# Altium footprint library RASPBERRYPI_4B.PcbLib: 1 footprints
Each footprint in its own frame and in the unit in brackets; x right, y up, seen from the top. Pads: shape width x height; smd on the part's side, far side on the other; paste and mask are expansions set on the pad; w line width, h text height; cw(c..) or ccw(c..) is an arc to the next point about the centre after c.
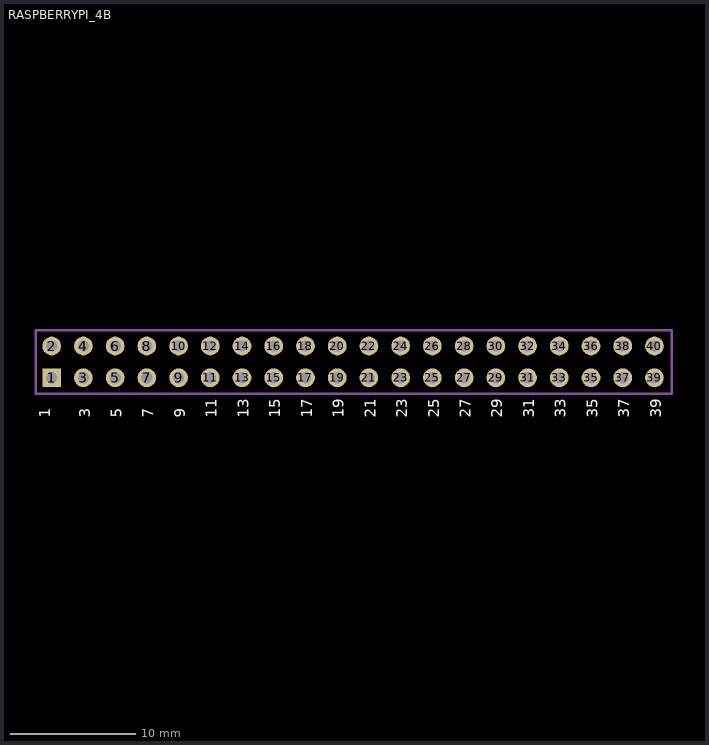
[diagram p0: the footprint, top view; thin cyan lines are the x and y axes]

## RASPBERRYPI_4B [mm]
pads (40):
  rect 1.5x1.5 hole 0.9: 1(4.87,47.73)
  round 1.5 hole 0.9: 2(4.87,50.27) 3(7.41,47.73) 4(7.41,50.27) 5(9.95,47.73) 6(9.95,50.27) 7(12.49,47.73) 8(12.49,50.27) 9(15.03,47.73) 10(15.03,50.27) 11(17.57,47.73) 12(17.57,50.27) 13(20.11,47.73) 14(20.11,50.27) 15(22.65,47.73) 16(22.65,50.27) 17(25.19,47.73) 18(25.19,50.27) 19(27.73,47.73) 20(27.73,50.27) 21(30.27,47.73) 22(30.27,50.27) 23(32.81,47.73) 24(32.81,50.27) 25(35.35,47.73) 26(35.35,50.27) 27(37.89,47.73) 28(37.89,50.27) 29(40.43,47.73) 30(40.43,50.27) 31(42.97,47.73) 32(42.97,50.27) 33(45.51,47.73) 34(45.51,50.27) 35(48.05,47.73) 36(48.05,50.27) 37(50.59,47.73) 38(50.59,50.27) 39(53.13,47.73) 40(53.13,50.27)
Top Overlay:
  text "1" at 4.765,44.52 h0.89
  text "3" at 7.94,44.52 h0.89
  text "5" at 10.48,44.52 h0.89
  text "7" at 13.02,44.52 h0.89
  text "9" at 15.56,44.52 h0.89
  text "11" at 18.1,44.52 h0.89
  text "13" at 20.64,44.52 h0.89
  text "15" at 23.18,44.52 h0.89
  text "17" at 25.72,44.52 h0.89
  text "19" at 28.26,44.52 h0.89
  text "21" at 30.8,44.52 h0.89
  text "23" at 33.34,44.52 h0.89
  text "25" at 35.88,44.52 h0.89
  text "27" at 38.42,44.52 h0.89
  text "29" at 40.96,44.52 h0.89
  text "31" at 43.5,44.52 h0.89
  text "33" at 46.04,44.52 h0.89
  text "35" at 48.58,44.52 h0.89
  text "37" at 51.12,44.52 h0.89
  text "39" at 53.66,44.52 h0.89
Bottom Overlay:
  circle w0.5: c4.25,45.75 r0.25
Top Courtyard:
  lines w0.2: 3.6,46.46 3.6,51.54 54.527,51.54 54.527,46.46 3.6,46.46
3D body "female_header_a-bl254-dg-z32d.stp": height 8.5, standoff -3.2, extent 13.635,46.498 54.525,51.498
3D body "female_header_a-bl254-dg-z32d.stp": height 8.5, standoff -3.2, extent 3.475,46.5 44.365,51.5